# EAGLE library part ICSP-BASIC (library arcadetv)
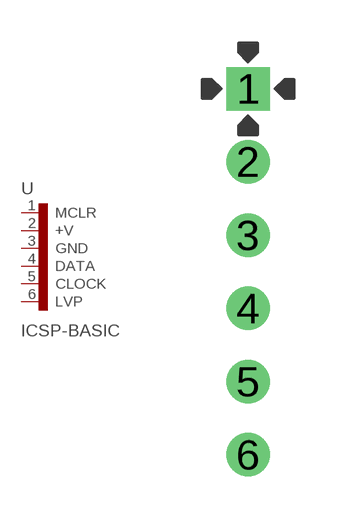
[diagram p7: symbol with the pads of ICSP-BASIC; footprint ICSP-BASIC]

Designator prefix -

## ICSP-BASIC  [ICSP-BASIC]
1  MCLR
2  +V
3  GND
4  DATA
5  CLOCK
6  LVP

## Footprint ICSP-BASIC (pad centres in mm)
drill 1 square: 1 0,5.08
drill 1: 2 0,2.54; 3 0,0; 4 0,-2.54; 5 0,-5.08; 6 0,-7.62